# Altium schematic symbol library Fuse_SMD.SchLib: 16 symbols
Pins are listed as number, name and electrical type; pins without a type are passive.

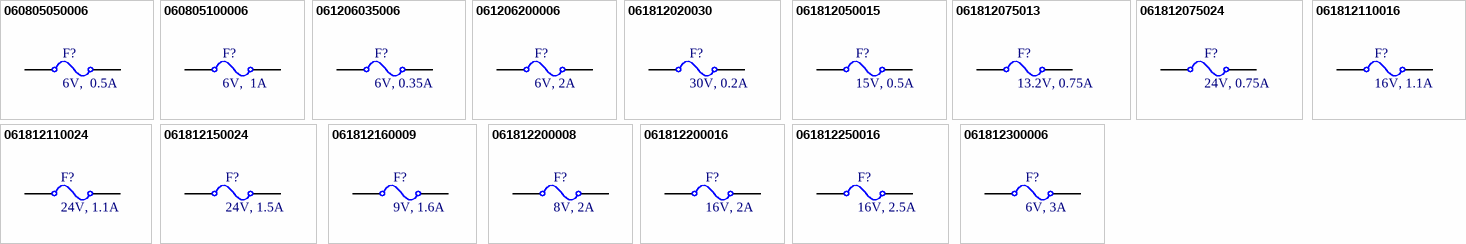
[diagram p0: symbols 060805050006 to 061812300006]

## 060805050006
designator F?, comment 6V,  0.5A
Resettable Fuse, Size 0805, 6V, 0.5A; Manufacturer: Littelfuse; Threshold Current: 100A; Trip Current: 1A; Supply 1 Name: Mouser; Supply 1 SN: 576-0805L050; Supply 2 Name: Digikey; Supply 2 SN: F2772TR-ND; Supply 3 Name: Thegioiic; Supply 3 SN: 0805L050WR; Threshold Voltage: 6V; Hold Current: 0.5A; Size: 0805; Mounting Technology: SMT/SMD; ComponentLink1Description: Datasheet link; ComponentLink1URL: https://www.littelfuse.com/~/media/electronics/datasheets/resettable_ptcs/littelfuse_ptc_0805l_datasheet.pdf.pdf; ComponentLink2Description: Supply 1 URL; ComponentLink2URL: https://www.mouser.vn/ProductDetail/Littelfuse/0805L050WR?qs=SJZ%252BTX%252BI2BS1ufZ22HRodg%3D%3D; ComponentLink3Description: Supply 2 URL; ComponentLink3URL: https://www.digikey.com/en/products/detail/littelfuse-inc/0805L050WR/1212822?s=N4IgTCBcDaIAwA44FYAyK4HUBKACEAugL5A; ComponentLink4Description: Supply 3 URL; ComponentLink4URL: https://www.thegioiic.com/0805l050wr-cau-chi-tu-phuc-hoi-0805-6v-500ma
pins: 0, 1

## 060805100006
designator F?, comment 6V,  1A
Resettable Fuse, Size 0805, 6V, 1A; Manufacturer: Littelfuse; Threshold Current: 40A; Trip Current: 1.95A; Supply 1 Name: Mouser; Supply 1 SN: 576-0805L100; Supply 2 Name: Digikey; Supply 2 SN: F2774TR-ND; Supply 3 Name: Thegioiic; Supply 3 SN: 0805L100WR; Threshold Voltage: 6V; Hold Current: 1A; Size: 0805; Mounting Technology: SMT/SMD; ComponentLink1Description: Datasheet link; ComponentLink1URL: https://www.littelfuse.com/~/media/electronics/datasheets/resettable_ptcs/littelfuse_ptc_0805l_datasheet.pdf.pdf; ComponentLink2Description: Supply 1 URL; ComponentLink2URL: https://www.mouser.vn/ProductDetail/Littelfuse/0805L100WR?qs=SJZ%252BTX%252BI2BTMlREVsW49pQ%3D%3D; ComponentLink3Description: Supply 2 URL; ComponentLink3URL: https://www.digikey.com/en/products/detail/littelfuse-inc/0805L100WR/1212824; ComponentLink4Description: Supply 3 URL; ComponentLink4URL: https://www.thegioiic.com/0805l100wr-cau-chi-tu-phuc-hoi-0805-6v-1a
pins: 0, 1

## 061206035006
designator F?, comment 6V, 0.35A
Resettable Fuse, Size 1206, 6V, 0.35A; Manufacturer: Bourns; Threshold Current: 100A; Trip Current: 0.75A; Supply 1 Name: Mouser; Supply 1 SN: 652-MF-NSMF035-2; Supply 2 Name: Digikey; Supply 2 SN: MF-NSMF035-2TR-ND; Supply 3 Name: Thegioiic; Supply 3 SN: MF-NSMF035-2; Threshold Voltage: 6V; Hold Current: 0.35A; Size: 1206; Mounting Technology: SMT/SMD; ComponentLink1Description: Datasheet link; ComponentLink1URL: https://www.bourns.com/docs/Product-Datasheets/mfnsmf.pdf; ComponentLink2Description: Supply 1 URL; ComponentLink2URL: https://www.mouser.vn/ProductDetail/Bourns/MF-NSMF035-2?qs=3eVyCPG4fwnHDrvs%2FGppSw%3D%3D; ComponentLink3Description: Supply 2 URL; ComponentLink3URL: https://www.digikey.com/en/products/detail/bourns-inc/MF-NSMF035-2/1232784?s=N4IgTCBcDaILIDEC0A5AyogDAZgKxIgF0BfIA; ComponentLink4Description: Supply 3 URL; ComponentLink4URL: https://www.thegioiic.com/mf-nsmf035-2-cau-chi-tu-phuc-hoi-1206-6v-0-35a
pins: 0, 1

## 061206200006
designator F?, comment 6V, 2A
Resettable Fuse, Size 1206, 6V, 2A; Manufacturer: Bourns; Threshold Current: 100A; Trip Current: 4A; Supply 1 Name: Mouser; Supply 1 SN: 652-MF-NSMF200-2; Supply 2 Name: Digikey; Supply 2 SN: MF-NSMF200-2TR-ND; Supply 3 Name: Thegioiic; Supply 3 SN: MF-NSMF200-2; Threshold Voltage: 6V; Hold Current: 2A; Size: 1206; Mounting Technology: SMT/SMD; ComponentLink1Description: Datasheet link; ComponentLink1URL: https://www.bourns.com/docs/product-datasheets/mf-nsmf.pdf?sfvrsn=39c76af6_20; ComponentLink2Description: Supply 1 URL; ComponentLink2URL: https://www.mouser.vn/ProductDetail/Bourns/MF-NSMF200-2?qs=49157WxD7wmY0%2FO7FNMvtw%3D%3D; ComponentLink3Description: Supply 2 URL; ComponentLink3URL: https://www.digikey.com/en/products/detail/bourns-inc/mf-nsmf200-2/1232785; ComponentLink4Description: Supply 3 URL; ComponentLink4URL: https://www.thegioiic.com/mf-nsmf200-2-cau-chi-tu-phuc-hoi-1206-6v-2a
pins: 0, 1

## 061812020030
designator F?, comment 30V, 0.2A
Resettable Fuse, Size 1812, 30V, 0.2A; Manufacturer: Bourns; Threshold Current: 80A; Trip Current: 0.4A; Supply 1 Name: Mouser; Supply 1 SN: 652-MF-MSMF020-2; Supply 2 Name: Digikey; Supply 2 SN: MF-MSMF020-2TR-ND; Supply 3 Name: Thegioiic; Supply 3 SN: MF-MSMF020-2; Threshold Voltage: 30V; Hold Current: 0.2A; Size: 1812; Mounting Technology: SMT/SMD; ComponentLink1Description: Datasheet link; ComponentLink1URL: https://www.bourns.com/docs/Product-Datasheets/mfnsmf.pdf; ComponentLink2Description: Supply 1 URL; ComponentLink2URL: https://www.mouser.vn/ProductDetail/Bourns/MF-MSMF020-2?qs=YYkh393lUtjbPn24kFIUNQ%3D%3D; ComponentLink3Description: Supply 2 URL; ComponentLink3URL: https://www.digikey.com/en/products/detail/bourns-inc/MF-MSMF020-2/662814?s=N4IgTCBcDaILIDEC0cDKiAMYNLAAhAF0BfIA; ComponentLink4Description: Supply 3 URL; ComponentLink4URL: https://www.thegioiic.com/mf-msmf020-2-cau-chi-tu-phuc-hoi-1812-0-20a-30v
pins: 0, 1

## 061812050015
designator F?, comment 15V, 0.5A
Resettable Fuse, Size 1812, 15V, 0.5A; Manufacturer: Bourns; Threshold Current: 100A; Trip Current: 1A; Supply 1 Name: Mouser; Supply 1 SN: 652-MF-MSMF050-2; Supply 2 Name: Digikey; Supply 2 SN: MF-MSMF050-2TR-ND; Supply 3 Name: Thegioiic; Supply 3 SN: MF-MSMF050-2; Threshold Voltage: 15V; Hold Current: 0.5A; Size: 1812; Mounting Technology: SMT/SMD; ComponentLink1Description: Datasheet link; ComponentLink1URL: https://www.bourns.com/docs/Product-Datasheets/mfnsmf.pdf; ComponentLink2Description: Supply 1 URL; ComponentLink2URL: https://www.mouser.vn/ProductDetail/Bourns/MF-MSMF050-2?qs=t3shhpq1i1DZ7OBD5kLNoA%3D%3D; ComponentLink3Description: Supply 2 URL; ComponentLink3URL: https://www.digikey.com/en/products/detail/bourns-inc/MF-MSMF050-2/662816?s=N4IgTCBcDaILIDEC0cDKiAMBWDSIF0BfIA; ComponentLink4Description: Supply 3 URL; ComponentLink4URL: https://www.thegioiic.com/mf-msmf050-2-cau-chi-tu-phuc-hoi-1812-15v-0-5a
pins: 0, 1

## 061812075013
designator F?, comment 13.2V, 0.75A
Resettable Fuse, Size 1812, 13.2V, 0.75A; Manufacturer: Littelfuse; Threshold Voltage: 13V; Threshold Current: 100A; Trip Current: 1.5A; Supply 1 Name: Mouser; Supply 1 SN: 650-MINISMDC075F-2; Supply 2 Name: Digikey; Supply 2 SN: MINISMDC075F-2TR-ND; Supply 3 Name: Thegioiic; Supply 3 SN: MINISMDC075F-2; Hold Current: 0.75A; Size: 1812; Mounting Technology: SMT/SMD; ComponentLink1Description: Datasheet link; ComponentLink1URL: https://www.littelfuse.com/~/media/electronics/product_specifications/resettable_ptcs/littelfuse_ptc_minismdc075f_2_product_specification.pdf.pdf; ComponentLink2Description: Supply 1 URL; ComponentLink2URL: https://www.mouser.vn/ProductDetail/Littelfuse/MINISMDC075F-2?qs=k5V78Jg%2Feq6mspvURJRgsw%3D%3D; ComponentLink3Description: Supply 2 URL; ComponentLink3URL: https://www.digikey.com/en/products/detail/littelfuse-inc/MINISMDC075F-2/1045891; ComponentLink4Description: Supply 3 URL; ComponentLink4URL: https://www.thegioiic.com/minismdc075f-2-cau-chi-tu-phuc-hoi-1812-13v-750ma
pins: 0, 1

## 061812075024
designator F?, comment 24V, 0.75A
Resettable Fuse, Size 1812, 24V, 0.75A; Manufacturer: Bourns; Threshold Current: 40A; Trip Current: 1.5A; Supply 1 Name: Mouser; Supply 1 SN: 652-MF-MSMF075/24-2; Supply 2 Name: Digikey; Supply 2 SN: MF-MSMF075/24-2TR-ND; Supply 3 Name: Thegioiic; Supply 3 SN: MF-MSMF075/24-2; Threshold Voltage: 24V; Hold Current: 0.75A; Size: 1812; Mounting Technology: SMT/SMD; ComponentLink1Description: Datasheet link; ComponentLink1URL: https://www.bourns.com/docs/Product-Datasheets/mfnsmf.pdf; ComponentLink2Description: Supply 1 URL; ComponentLink2URL: https://www.mouser.vn/ProductDetail/Bourns/MF-MSMF075-24-2?qs=4wQOTo1SlKkr8xXCy%2FQ4UA%3D%3D; ComponentLink3Description: Supply 2 URL; ComponentLink3URL: https://www.digikey.com/en/products/detail/bourns-inc/MF-MSMF075-24-2/662818?s=N4IgTCBcDaILIDEC0cDKiAMB2ArAejABYkIBdAXyA; ComponentLink4Description: Supply 3 URL; ComponentLink4URL: https://www.thegioiic.com/mf-msmf075-24-2-cau-chi-tu-phuc-hoi-1812-24v-0-75a
pins: 0, 1

## 061812110016
designator F?, comment 16V, 1.1A
Resettable Fuse, Size 1812, 16V, 1.1A; Manufacturer: Bourns; Threshold Current: 100A; Trip Current: 2.2A; Supply 1 Name: Mouser; Supply 1 SN: 652-MF-MSMF110/16-2; Supply 2 Name: Digikey; Supply 2 SN: MF-MSMF110/16-2TR-ND; Supply 3 Name: Thegioiic; Supply 3 SN: MF-MSMF110/16-2; Threshold Voltage: 16V; Hold Current: 1.1A; Size: 1812; Mounting Technology: SMT/SMD; ComponentLink1Description: Datasheet link; ComponentLink1URL: https://www.bourns.com/docs/Product-Datasheets/mfnsmf.pdf; ComponentLink2Description: Supply 1 URL; ComponentLink2URL: https://www.mouser.vn/ProductDetail/Bourns/MF-MSMF110-16-2?qs=wksszfECgvir54ST3ixUHA%3D%3D; ComponentLink3Description: Supply 2 URL; ComponentLink3URL: https://www.digikey.com/en/products/detail/bourns-inc/MF-MSMF110-16-2/662820; ComponentLink4Description: Supply 3 URL; ComponentLink4URL: https://www.thegioiic.com/mf-msmf110-16-2-cau-chi-tu-phuc-hoi-1812-16v-1-1a
pins: 0, 1

## 061812110024
designator F?, comment 24V, 1.1A
Resettable Fuse, Size 1812, 24V, 1.1A; Manufacturer: Bourns; Threshold Current: 20A; Trip Current: 2.2A; Supply 1 Name: Mouser; Supply 1 SN: 652-MF-MSMF110/24X-2; Supply 2 Name: Digikey; Supply 2 SN: MF-MSMF110/24X-2TR-ND; Supply 3 Name: Thegioiic; Supply 3 SN: MF-MSMF110/24X-2; Threshold Voltage: 24V; Hold Current: 1.1A; Size: 1812; Mounting Technology: SMT/SMD; ComponentLink1Description: Datasheet link; ComponentLink1URL: https://www.bourns.com/docs/Product-Datasheets/mfnsmf.pdf; ComponentLink2Description: Supply 1 URL; ComponentLink2URL: https://www.mouser.vn/ProductDetail/Bourns/MF-MSMF110-24X-2?qs=tiksPeNXt0KSvkNsPEvQzw%3D%3D; ComponentLink3Description: Supply 2 URL; ComponentLink3URL: https://www.digikey.com/en/products/detail/bourns-inc/MF-MSMF110-24X-2/2127043?s=N4IgTCBcDaILIDEC0cDKiCMGAMB6MALABpIQC6AvkA; ComponentLink4Description: Supply 3 URL; ComponentLink4URL: https://www.thegioiic.com/mf-msmf110-24x-2-cau-chi-tu-phuc-hoi-1812-24v-1-1a
pins: 0, 1

## 061812150024
designator F?, comment 24V, 1.5A
Resettable Fuse, Size 1812, 24V, 1.5A; Manufacturer: Littelfuse; Threshold Current: 20A; Trip Current: 3A; Supply 1 Name: Mouser; Supply 1 SN: 650-MINISMDC150F/24; Supply 2 Name: Digikey; Supply 2 SN: MINISMDC150F24-2TR-ND; Supply 3 Name: Thegioiic; Threshold Voltage: 24V; Hold Current: 1.5A; Size: 1812; Mounting Technology: SMT/SMD; ComponentLink1Description: Datasheet link; ComponentLink1URL: https://www.littelfuse.com/~/media/electronics/product_specifications/resettable_ptcs/littelfuse_ptc_minismdc300f_2_product_specification.pdf.pdf; ComponentLink2Description: Supply 1 URL; ComponentLink2URL: https://www.mouser.vn/ProductDetail/Littelfuse/MINISMDC150F-24-2?qs=F6FIpiMdEVZ%2Fp37J%2FDHAxA%3D%3D; ComponentLink3Description: Supply 2 URL; ComponentLink3URL: https://www.digikey.com/en/products/detail/littelfuse-inc/MINISMDC150F-24-2/1113513?s=N4IgTCBcDaILIEkByCDKcAiBhAjAVgAYAxAejABYBaCAXQF8g; ComponentLink4Description: Supply 3 URL; ComponentLink4URL: https://www.thegioiic.com/cau-chi-tu-phuc-hoi-1812-24v-1-5a; Supply 3 SN: N/A
pins: 0, 1

## 061812160009
designator F?, comment 9V, 1.6A
Resettable Fuse, Size 1812, 9V, 1.6A; Manufacturer: Littelfuse; Threshold Current: 100A; Trip Current: 3.2A; Supply 1 Name: Mouser; Supply 1 SN: 650-MINISMDC160F-2; Supply 2 Name: Digikey; Supply 2 SN: MINISMDC160F-2TR-ND; Supply 3 Name: Thegioiic; Threshold Voltage: 9V; Hold Current: 1.6A; Size: 1812; Mounting Technology: SMT/SMD; ComponentLink1Description: Datasheet link; ComponentLink1URL: https://www.littelfuse.com/~/media/electronics/product_specifications/resettable_ptcs/littelfuse_ptc_minismdc300f_2_product_specification.pdf.pdf; ComponentLink2Description: Supply 1 URL; ComponentLink2URL: https://www.mouser.vn/ProductDetail/Littelfuse/miniSMDC160F-2?qs=F6FIpiMdEVaTu%252B225tqW3A%3D%3D; ComponentLink3Description: Supply 2 URL; ComponentLink3URL: https://www.digikey.com/en/products/detail/littelfuse-inc/MINISMDC160F-2/1045895?s=N4IgTCBcDaILYEsB2CDKBZAIgYQIwDYAGAMQFoIBdAXyA; ComponentLink4Description: Supply 3 URL; ComponentLink4URL: https://www.thegioiic.com/cau-chi-tu-phuc-hoi-1812-9v-1-6a; Supply 3 SN: N/A
pins: 0, 1

## 061812200008
designator F?, comment 8V, 2A
Resettable Fuse, Size 1812, 8V, 2A; Manufacturer: Littelfuse; Threshold Current: 100A; Trip Current: 4A; Supply 1 Name: Mouser; Supply 1 SN: 650-MINISMDC200F-2; Supply 2 Name: Digikey; Supply 2 SN: MINISMDC200F-2TR-ND; Supply 3 Name: Thegioiic; Threshold Voltage: 8V; Hold Current: 2A; Size: 1812; Mounting Technology: SMT/SMD; ComponentLink1Description: Datasheet link; ComponentLink1URL: https://www.littelfuse.com/~/media/electronics/product_specifications/resettable_ptcs/littelfuse_ptc_minismdc300f_2_product_specification.pdf.pdf; ComponentLink2Description: Supply 1 URL; ComponentLink2URL: https://www.mouser.vn/ProductDetail/Littelfuse/MINISMDC200F-2?qs=F6FIpiMdEVbPu4q%2F42CC1w%3D%3D; ComponentLink3Description: Supply 2 URL; ComponentLink3URL: https://www.digikey.com/en/products/detail/littelfuse-inc/MINISMDC200F-2/1045898?s=N4IgTCBcDaIAQFkCSA5JBlBARAwmADPgGIC0EAugL5A; ComponentLink4Description: Supply 3 URL; ComponentLink4URL: https://www.thegioiic.com/cau-chi-tu-phuc-hoi-1812-8v-2a; Supply 3 SN: N/A
pins: 0, 1

## 061812200016
designator F?, comment 16V, 2A
Resettable Fuse, Size 1812, 16V, 2A; Manufacturer: Littelfuse; Threshold Current: 40A; Trip Current: 4A; Supply 1 Name: Mouser; Supply 1 SN: 650-MINISMDC200F/162; Supply 2 Name: Digikey; Supply 2 SN: MINISMDC200F/16-2TR-ND; Supply 3 Name: Thegioiic; Threshold Voltage: 16V; Hold Current: 2A; Size: 1812; Mounting Technology: SMT/SMD; ComponentLink1Description: Datasheet link; ComponentLink1URL: https://www.littelfuse.com/~/media/electronics/product_specifications/resettable_ptcs/littelfuse_ptc_minismdc300f_2_product_specification.pdf.pdf; ComponentLink2Description: Supply 1 URL; ComponentLink2URL: https://www.mouser.vn/ProductDetail/Littelfuse/MINISMDC200F-16-2?qs=pBN%2FbMTRZdcH0yqkqvkPxw%3D%3D; ComponentLink3Description: Supply 2 URL; ComponentLink3URL: https://www.digikey.com/en/products/detail/littelfuse-inc/MINISMDC200F-16-2/6348163?s=N4IgTCBcDaILIEkByCDKcAiBhMAGXAYgPQCMAbALQQC6AvkA; ComponentLink4Description: Supply 3 URL; ComponentLink4URL: https://www.thegioiic.com/cau-chi-tu-phuc-hoi-1812-16v-2a; Supply 3 SN: N/A
pins: 0, 1

## 061812250016
designator F?, comment 16V, 2.5A
Resettable Fuse, Size 1812, 16V, 2.5A; Manufacturer: Bourns; Threshold Current: 100A; Trip Current: 5A; Supply 1 Name: Mouser; Supply 1 SN: 652-MF-MSMF250/16X-2; Supply 2 Name: Digikey; Supply 2 SN: MF-MSMF250/16X-2TR-ND; Supply 3 Name: Thegioiic; Supply 3 SN: MF-MSMF250/16; Threshold Voltage: 16V; Hold Current: 2.5A; Size: 1812; Mounting Technology: SMT/SMD; ComponentLink1Description: Datasheet link; ComponentLink1URL: https://www.bourns.com/docs/Product-Datasheets/mfnsmf.pdf; ComponentLink2Description: Supply 1 URL; ComponentLink2URL: https://www.mouser.vn/ProductDetail/Bourns/MF-MSMF250-16X-2?qs=9fn1gpisni78zr7pGyDhCQ%3D%3D; ComponentLink3Description: Supply 2 URL; ComponentLink3URL: https://www.digikey.com/en/products/detail/bourns-inc/MF-MSMF250-16X-2/2563289; ComponentLink4Description: Supply 3 URL; ComponentLink4URL: https://www.thegioiic.com/mf-msmf250-16-cau-chi-tu-phuc-hoi-1812-16v-2-5a
pins: 0, 1

## 061812300006
designator F?, comment 6V, 3A
Resettable Fuse, Size 1812, 6V, 3A; Manufacturer: Littelfuse; Threshold Current: 100A; Trip Current: 6A; Supply 1 Name: Mouser; Supply 1 SN: 650-MINISMDC300F-2; Supply 2 Name: Digikey; Supply 2 SN: MINISMDC300F-2TR-ND; Supply 3 Name: Thegioiic; Threshold Voltage: 6V; Hold Current: 3A; Size: 1812; Mounting Technology: SMT/SMD; ComponentLink1Description: Datasheet link; ComponentLink1URL: https://www.littelfuse.com/~/media/electronics/product_specifications/resettable_ptcs/littelfuse_ptc_minismdc300f_2_product_specification.pdf.pdf; ComponentLink2Description: Supply 1 URL; ComponentLink2URL: https://www.mouser.vn/ProductDetail/Littelfuse/MINISMDC300F-2?qs=NBx1VnXdadznR1WtAMXLew%3D%3D; ComponentLink3Description: Supply 2 URL; ComponentLink3URL: https://www.digikey.com/en/products/detail/littelfuse-inc/MINISMDC300F-2/3885071?s=N4IgjCBcoGwBwCYqgMZQGYEMA2BnApgDQgD2UA2iAMwAEAgiALrEAOALlCAKoB2AlmwDy6ALL5MuAK4AnfCAC%2BxeFWQg0kLHiKkKIGPSasOkbvyGjxU2QqVwYq9ZoLEykSghgB2ACwBWJMwg7JwAymzSfDwA5jYgCAAMnkjQahg4zjpu4PHxBoHBJrwCwmISMnKKcYm%2BDmlaLrpU%2BgC2ggAWzbiGQcamxRZl1vKVyZTokgRM8kA; ComponentLink4Description: Supply 3 URL; ComponentLink4URL: https://www.thegioiic.com/cau-chi-tu-phuc-hoi-1812-6v-3a; Supply 3 SN: N/A
pins: 0, 1